# Altium schematic symbol library CD40109BPWR.SchLib: 1 symbol
Pins are listed as number, name and electrical type; pins without a type are passive.

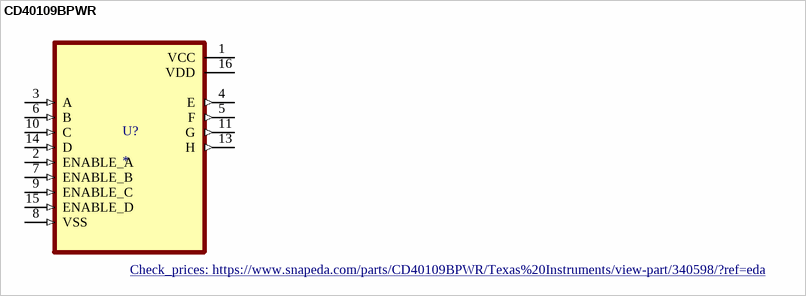
[diagram p0: symbol CD40109BPWR]

## CD40109BPWR
designator U?
CMOS Quad Low-to-High Voltage Level Shifter (20V Rating) 16-TSSOP -55 to 125; MP: CD40109BPWR; MF: Texas Instruments; Availability: Good; Purchase-URL: https://pricing.snapeda.com/search/part/CD40109BPWR/?ref=eda; SnapEDA_Link: https://www.snapeda.com/parts/CD40109BPWR/Texas%20Instruments/view-part/340598/?ref=snap; Price: None; Package: TSSOP-16 Texas Instruments; Value: *; Check_prices: https://www.snapeda.com/parts/CD40109BPWR/Texas%20Instruments/view-part/340598/?ref=eda
footprint SOP65P640X120-16N
pins: 1 VCC (power), 2 ENABLE_A (in), 3 A (in), 4 E (out), 5 F (out), 6 B (in), 7 ENABLE_B (in), 8 VSS (in), 9 ENABLE_C (in), 10 C (in), 11 G (out), 13 H (out), 14 D (in), 15 ENABLE_D (in), 16 VDD (power)